# Altium footprint library Components - 06.03.25 - 16.22.PcbLib: 1 footprints
Each footprint in its own frame and in the unit in brackets; x right, y up, seen from the top. Pads: shape width x height; smd on the part's side, far side on the other; paste and mask are expansions set on the pad; w line width, h text height; cw(c..) or ccw(c..) is an arc to the next point about the centre after c.
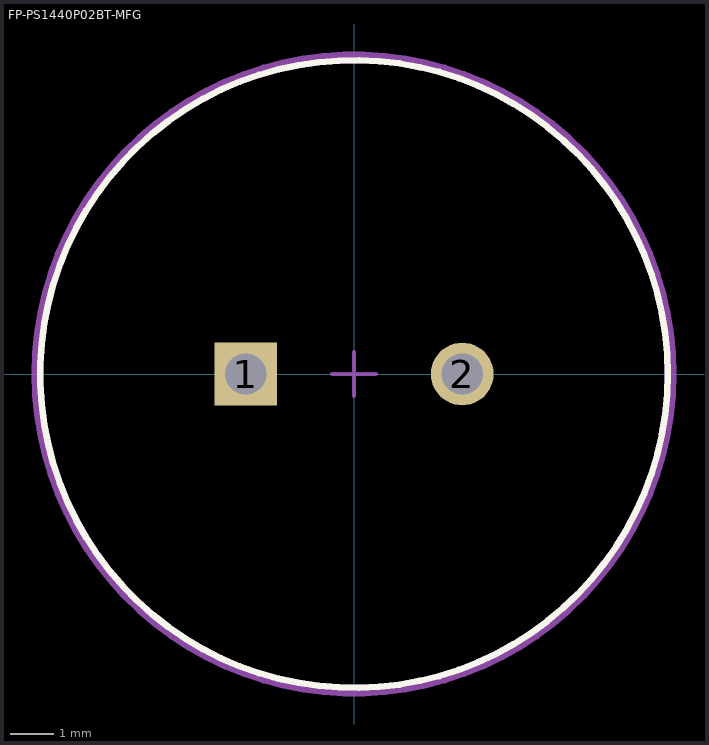
[diagram p0: the footprint, top view; thin cyan lines are the x and y axes]

## FP-PS1440P02BT-MFG [mm]
pads (2):
  rect 1.45x1.45 hole 0.95 paste-2539.97 mask+0: 1(-2.5,0)
  round 1.45 hole 0.95 paste-2539.97 mask+0: 2(2.5,0)
Top Overlay:
  circle w0.15: c0,0 r7.25
Top Assembly:
  text ".Designator" at 0,-0.001 h1
Top 3D Body:
  circle w0.15: c0,0 r7.25
Top Courtyard:
  lines w0.2: -7.35,0 ccw(c0,0) 7.35,0 ccw(c0,0) -7.35,0
Top Component Center:
  lines w0.1: -0.5,0 0.5,0 ; 0,-0.5 0,0.5
3D body "Speak_TDK_Corporation_PS1440P02BT_eec.STEP": height 0.25, standoff 0, extent -7.35,-7.35 7.35,7.35